# Altium schematic symbol library Conn_Switchcraft_RAPC722X_eec.SchLib: 1 symbol
Pins are listed as number, name and electrical type; pins without a type are passive.

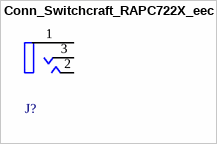
[diagram p0: symbol Conn_Switchcraft_RAPC722X_eec]

## Conn_Switchcraft_RAPC722X_eec
designator J?
CONN PWR JACK 2X5.5MM SOLDER; Manufacturer: Switchcraft; Part Number: RAPC722X; Category Bda670Ac885E6661: Uncategorized; mounting_angle: 90 °; number_of_contacts: 2; voltage_rating_ac: 250 V; Category 0836C53C3D42D3F1: Connectors; Category 001Fcd153521Dbd8: Jack Plugs/Sockets; Category 75Fab8F04590Ae3D: Connectors and Adapters; gender: Female; current_rating: 5 A; Num Pins: 3; helpURL: https://upverter.com/upn/revision/3390e98938df1595/; ComponentLink2Description: Datasheet; Temperature: to; Package: cCONN_PTH_DC_JACK_14MM5_9MM0; Supplier 2: Mouser; Price: 0.740243901321; Supplier 1: Digi-Key; ComponentLink1URL: https://upverter.com/upn/revision/3390e98938df1595/; Supplier Part Number 2: 502-RAPC722X; Supplier Part Number 1: SC1313-ND; ComponentLink1Description: Upverter; ComponentLink2URL: https://upverter.com/datasheet/96e949921d5d9c87f4f03f75a44e5e613c467149.pdf; RoHS: TRUE; Mouser Part Number: 502-RAPC722X; color: Black; Digikey Description: CONN PWR JACK 2X5.5MM SOLDER; Digikey Part Number: SC1313-ND; Category A3C16Ecb93907806: Uncategorized; Lead Free: yes; Mounting Type: through hole; Octopart Part Number: da391331d91005fe
footprint Switchcraft_RAPC722X_0
pins: 1 SLEEVE, 2 DETECT, 3 CENTER TIP